# Altium schematic symbol library OPTO-CCNECB-6.SchLib: 1 symbol
Pins are listed as number, name and electrical type; pins without a type are passive.

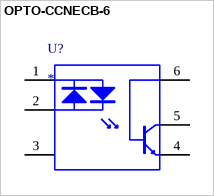
[diagram p0: symbol OPTO-CCNECB-6]

## OPTO-CCNECB-6
designator U?
pins: 1 C, 2 C, 3 NC, 4 EMITTER, 5 COLLECTOR, 6 BASE